# EAGLE library part TLP290-4 (library user_ic)
フォトリフレクタ オープンドレイン インバータ出力
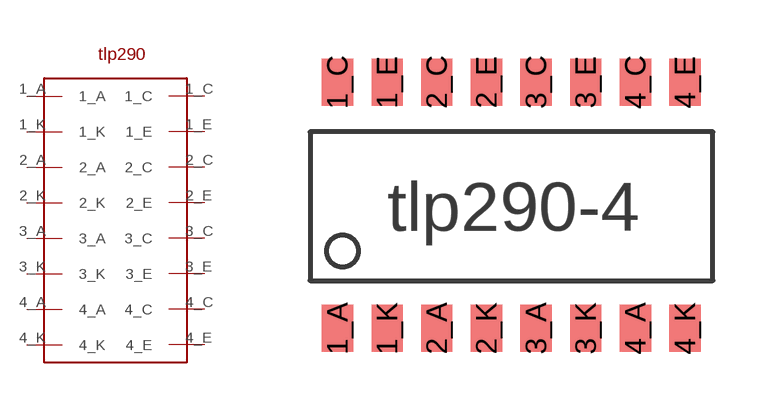
[diagram p12: symbol with the pads of TLP290; footprint TLP290]

Designator prefix -

## TLP290-4  [TLP290]
1_A  1_A
1_C  1_C
1_E  1_E
1_K  1_K
2_A  2_A
2_C  2_C
2_E  2_E
2_K  2_K
3_A  3_A
3_C  3_C
3_E  3_E
3_K  3_K
4_A  4_A
4_C  4_C
4_E  4_E
4_K  4_K

## Footprint TLP290 (pad centres in mm)
smd 0.8 x 1.2: 1_A 0,-6.3; 1_C 0,0; 1_E 1.27,0; 1_K 1.27,-6.3; 2_A 2.54,-6.3; 2_C 2.54,0; 2_E 3.81,0; 2_K 3.81,-6.3; 3_A 5.08,-6.3; 3_C 5.08,0; 3_E 6.35,0; 3_K 6.35,-6.3; 4_A 7.62,-6.3; 4_C 7.62,0; 4_E 8.89,0; 4_K 8.89,-6.3